# Altium footprint library Acconeer.PcbLib: 2 footprints
Each footprint in its own frame and in the unit in brackets; x right, y up, seen from the top. Pads: shape width x height; smd on the part's side, far side on the other; paste and mask are expansions set on the pad; w line width, h text height; cw(c..) or ccw(c..) is an arc to the next point about the centre after c.
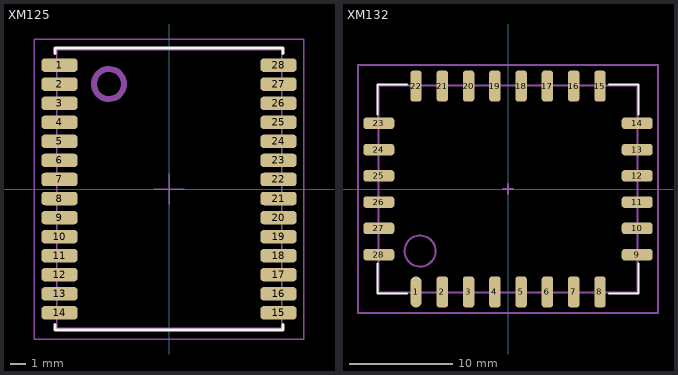
[diagram p0: the footprints below, top view; thin cyan lines are the x and y axes]

## XM125 [mm]
pads (28):
  rrect50% 2.4x0.9 smd: 1(-7.3,8.255) 2(-7.3,6.985) 3(-7.3,5.715) 4(-7.3,4.445) 5(-7.3,3.175) 6(-7.3,1.905) 7(-7.3,0.635) 8(-7.3,-0.635) 9(-7.3,-1.905) 10(-7.3,-3.175) 11(-7.3,-4.445) 12(-7.3,-5.715) 13(-7.3,-6.985) 14(-7.3,-8.255) 15(7.3,-8.255) 16(7.3,-6.985) 17(7.3,-5.715) 18(7.3,-4.445) 19(7.3,-3.175) 20(7.3,-1.905) 21(7.3,-0.635) 22(7.3,0.635) 23(7.3,1.905) 24(7.3,3.175) 25(7.3,4.445) 26(7.3,5.715) 27(7.3,6.985) 28(7.3,8.255)
Top Overlay:
  lines w0.2: -7.6,-9.025 -7.6,-9.4 7.6,-9.4 7.6,-9.025 ; -7.6,9.025 -7.6,9.4 7.6,9.4 7.6,9.025
3D Top:
  circle w0.4: c-4,7 r1
  lines w0.1: -7.5,-9.3 7.5,-9.3 7.5,9.3 -7.5,9.3 -7.5,-9.3
Courtyard Top:
  lines w0.1: -1,0 1,0 ; 0,-1 0,1 ; -9,-10 -9,10 9,10 9,-10 -9,-10
3D body: height 1, standoff 0, extent -7.5,-9.3 7.5,9.3

## XM132 [mm] "Radar module with MCU"
height 2.4
pads (28):
  oval 1.1x3 smd: 1(-8.89,-9.95)
  rrect50% 1.1x3 smd: 2(-6.35,-9.95) 3(-3.81,-9.95) 4(-1.27,-9.95) 5(1.27,-9.95) 6(3.81,-9.95) 7(6.35,-9.95) 8(8.89,-9.95) 15(8.89,9.95) 16(6.35,9.95) 17(3.81,9.95) 18(1.27,9.95) 19(-1.27,9.95) 20(-3.81,9.95) 21(-6.35,9.95) 22(-8.89,9.95)
  rrect50% 3x1.1 smd: 9(12.49,-6.35) 10(12.49,-3.81) 11(12.49,-1.27) 12(12.49,1.27) 13(12.49,3.81) 14(12.49,6.35) 23(-12.49,6.35) 24(-12.49,3.81) 25(-12.49,1.27) 26(-12.49,-1.27) 27(-12.49,-3.81) 28(-12.49,-6.35)
Top Overlay:
  lines w0.2: -12.6,-7.2 -12.6,-10.1 -9.75,-10.1 ; -12.6,7.2 -12.6,10.1 -9.75,10.1 ; 9.75,-10.1 12.6,-10.1 12.6,-7.2 ; 9.75,10.1 12.6,10.1 12.6,7.2
3D Top:
  circle w0.2: c-8.5,-6 r1.5
  lines w0.2: -12.5,-10 -12.5,10 12.5,10 12.5,-10 -12.5,-10
Courtyard Top:
  lines w0.2: -0.5,0 0.5,0 ; 0,-0.5 0,0.5 ; -14.5,-12 14.5,-12 14.5,12 -14.5,12 -14.5,-12
3D body: height 2.4, standoff 0, extent -12.5,-10 12.5,10